# Altium schematic symbol library PA1616D.SchLib: 1 symbol
Pins are listed as number, name and electrical type; pins without a type are passive.

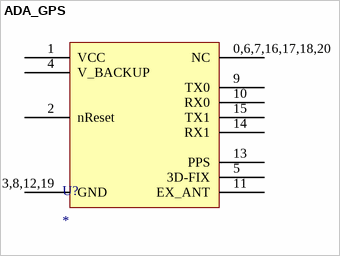
[diagram p0: symbol ADA_GPS]

## ADA_GPS
designator U?
footprint PA1616D
pins: 0,6,7,16,17,18,20 NC, 1 VCC, 2 nReset, 3,8,12,19 GND, 4 V_BACKUP, 5 3D-FIX, 9 TX0, 10 RX0, 11 EX_ANT, 13 PPS, 14 RX1, 15 TX1